# Altium footprint library Antenna_PCB_Library.PcbLib: 4 footprints
Each footprint in its own frame and in the unit in brackets; x right, y up, seen from the top. Pads: shape width x height; smd on the part's side, far side on the other; paste and mask are expansions set on the pad; w line width, h text height; cw(c..) or ccw(c..) is an arc to the next point about the centre after c.
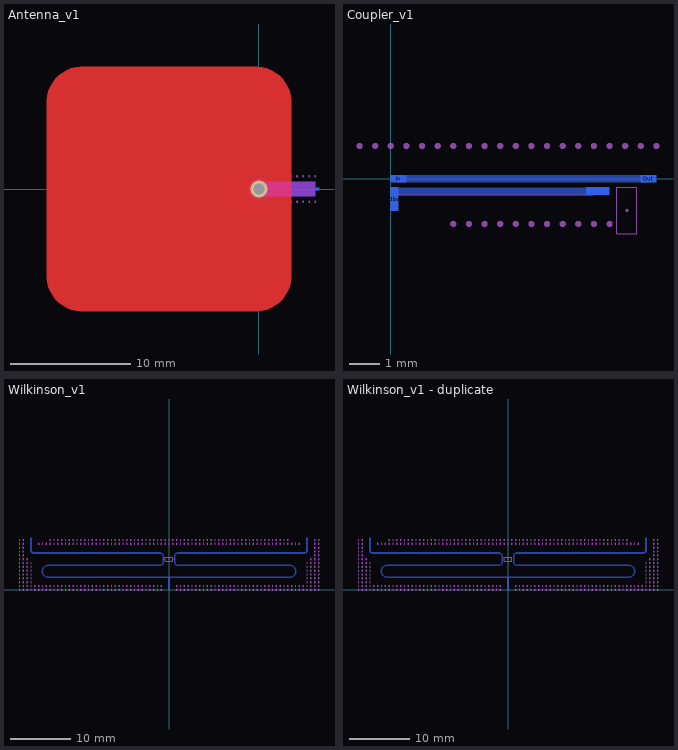
[diagram p0: the footprints below, top view; thin cyan lines are the x and y axes]

## Antenna_v1 [mil]
pads (2):
  round 1 on Mid2 paste-3: G(-295.28,0)
  rect 9.4x9.4 smd far side paste-5 mask+0: S(192.15,0)
via 0,0 diameter 55.12 hole 35.43
L1-Top:
  region: -696.79,-283.46 -696.79,283.46 -696.79,291.2 -694.77,306.54 -690.76,321.49 -684.84,335.79 -677.1,349.19 -667.68,361.46 -656.74,372.41 -644.46,381.83 -631.06,389.56 -616.77,395.49 -601.82,399.49 -586.48,401.51 -578.74,401.51 -11.81,401.51 -4.07,401.51 11.27,399.49 26.21,395.49 40.51,389.56 53.91,381.83 66.19,372.41 77.13,361.46 86.55,349.19 94.29,335.79 100.21,321.49 104.22,306.54 106.23,291.2 106.23,283.46 106.23,0.06 19.75,0.06 19.36,3.91 16.39,11.02 10.94,16.45 3.82,19.38 -3.88,19.36 -10.99,16.41 -16.43,10.96 -19.37,3.85 -19.75,0 -19.37,-3.85 -16.43,-10.96 -10.99,-16.41 -3.88,-19.36 3.82,-19.38 10.94,-16.45 16.39,-11.02 19.36,-3.91 19.75,-0.06 106.23,-0.06 106.23,-283.46 106.23,-291.2 104.22,-306.54 100.21,-321.49 94.29,-335.79 86.55,-349.19 77.13,-361.46 66.19,-372.41 53.91,-381.83 40.51,-389.56 26.21,-395.49 11.27,-399.49 -4.07,-401.51 -11.81,-401.51 -578.74,-401.51 -586.48,-401.51 -601.82,-399.49 -616.77,-395.49 -631.06,-389.56 -644.46,-381.83 -656.74,-372.41 -667.68,-361.46 -677.1,-349.19 -684.84,-335.79 -690.76,-321.49 -694.77,-306.54 -696.79,-291.2
L2-Mid-A:
  region: -718.5,-305.12 -718.5,305.12 -718.5,312.86 -716.48,328.21 -712.48,343.16 -706.55,357.47 -698.81,370.88 -689.38,383.16 -678.44,394.11 -666.15,403.53 -652.74,411.28 -638.44,417.2 -623.49,421.21 -608.13,423.23 -600.39,423.23 9.84,423.23 17.58,423.23 32.93,421.21 47.89,417.2 62.19,411.28 75.6,403.53 87.89,394.11 98.83,383.16 108.26,370.88 116,357.47 121.92,343.16 125.93,328.21 127.95,312.86 127.95,305.12 127.95,-305.12 127.95,-312.86 125.93,-328.21 121.92,-343.16 116,-357.47 108.26,-370.88 98.83,-383.16 87.89,-394.11 75.6,-403.53 62.19,-411.28 47.89,-417.2 32.93,-421.21 17.58,-423.23 9.84,-423.23 -600.39,-423.23 -608.13,-423.23 -623.49,-421.21 -638.44,-417.2 -652.74,-411.28 -666.15,-403.53 -678.44,-394.11 -689.38,-383.16 -698.81,-370.88 -706.55,-357.47 -712.48,-343.16 -716.48,-328.21 -718.5,-312.86
L3-Mid-B:
  region: -787.34,-492.06 -787.34,492.06 196.79,492.06 196.79,0.06 39.43,0.06 39.35,2.64 38.66,7.75 37.32,12.73 35.34,17.49 32.76,21.95 29.62,26.04 25.97,29.68 21.87,32.81 17.4,35.39 12.64,37.35 7.66,38.68 2.55,39.35 -2.61,39.35 -7.72,38.67 -12.7,37.33 -17.46,35.36 -21.93,32.78 -26.01,29.64 -29.66,25.99 -32.8,21.9 -35.37,17.43 -37.34,12.67 -38.68,7.69 -39.35,2.58 -39.43,0 -39.35,-2.58 -38.68,-7.69 -37.34,-12.67 -35.37,-17.43 -32.8,-21.9 -29.66,-25.99 -26.01,-29.64 -21.93,-32.78 -17.46,-35.36 -12.7,-37.33 -7.72,-38.67 -2.61,-39.35 2.55,-39.35 7.66,-38.68 12.64,-37.35 17.4,-35.39 21.87,-32.81 25.97,-29.68 29.62,-26.04 32.76,-21.95 35.34,-17.49 37.32,-12.73 38.66,-7.75 39.35,-2.64 39.43,-0.06 196.79,-0.06 196.79,-492.06
L4-Bottom:
  rectangle: 0,-4.7 187.45,4.7
  region: -27.56,0 -27.56,-2.71 -26.5,-8.04 -24.42,-13.05 -21.41,-17.57 -17.57,-21.41 -13.05,-24.42 -8.04,-26.5 -2.71,-27.56 0,-27.56 2.71,-27.56 8.04,-26.5 13.05,-24.42 17.57,-21.41 21.41,-17.57 24.42,-13.05 26.5,-8.04 27.56,-2.71 27.56,0 27.56,2.71 26.5,8.04 24.42,13.05 21.41,17.57 17.57,21.41 13.05,24.42 8.04,26.5 2.71,27.56 0,27.56 -2.71,27.56 -8.04,26.5 -13.05,24.42 -17.57,21.41 -21.41,17.57 -24.42,13.05 -26.5,8.04 -27.56,2.71
  lines w9.4: 0,0 192.15,0
L4-Bottom keep-out:
  circle w1: c0,0 r33
  rectangle: 0,-24 185,0
  rectangle: 0,0 185,24
Mechanical 1:
  circle w4: c185,-42 r2
  circle w4: c165,-42 r2
  circle w4: c145,-42 r2
  circle w4: c125,-42 r2
  circle w4: c105,-42 r2
  circle w4: c85,-42 r2
  circle w4: c65,-42 r2
  circle w4: c45,-42 r2
  circle w4: c25,-43.3 r2
  circle w4: c8.68,-49.24 r2
  circle w4: c-8.68,-49.24 r2
  circle w4: c-25,-43.3 r2
  circle w4: c-38.3,-32.14 r2
  circle w4: c-46.98,-17.1 r2
  circle w4: c-50,0 r2
  circle w4: c-46.98,17.1 r2
  circle w4: c-38.3,32.14 r2
  circle w4: c-25,43.3 r2
  circle w4: c-8.68,49.24 r2
  circle w4: c8.68,49.24 r2
  circle w4: c25,43.3 r2
  circle w4: c45,42 r2
  circle w4: c65,42 r2
  circle w4: c85,42 r2
  circle w4: c105,42 r2
  circle w4: c125,42 r2
  circle w4: c145,42 r2
  circle w4: c165,42 r2
  circle w4: c185,42 r2

## Coupler_v1 [mil]
pads (4):
  rect 30x9.4 smd far side paste-5 mask+0: 50_Ohm(264.4,-15.76)
  rect 20x9.4 smd far side paste-5 mask+0: In(10,0) Out(330,0)
  rect 9.4x30 smd far side paste-5 mask+0: Obs(4.7,-26.06)
L4-Bottom:
  rectangle: 9.4,-20.46 249.4,-11.06
  rectangle: 20,-4.7 320,4.7
  lines w9.4: 4.7,-26.06 4.7,-15.76 ; 10,0 330,0
L4-Bottom keep-out:
  rectangle: 9.4,-21.46 259.4,-20.46
  rectangle: 0,4.7 300,5.7
Mechanical 1:
  circle w4: c340,42 r2
  circle w4: c-40,42 r2
  circle w4: c-20,42 r2
  circle w2: c302.2,-40.59 r1
  circle w4: c20,42 r2
  circle w4: c0,42 r2
  circle w4: c40,42 r2
  circle w4: c60,42 r2
  circle w4: c80,42 r2
  circle w4: c100,42 r2
  circle w4: c120,42 r2
  circle w4: c140,42 r2
  circle w4: c160,42 r2
  circle w4: c180,42 r2
  circle w4: c200,42 r2
  circle w4: c220,42 r2
  circle w4: c240,42 r2
  circle w4: c260,42 r2
  circle w4: c280,42 r2
  circle w4: c300,42 r2
  circle w4: c320,42 r2
  circle w4: c80,-57.76 r2
  circle w4: c100,-57.76 r2
  circle w4: c120,-57.76 r2
  circle w4: c140,-57.76 r2
  circle w4: c160,-57.76 r2
  circle w4: c180,-57.76 r2
  circle w4: c200,-57.76 r2
  circle w4: c220,-57.76 r2
  circle w4: c240,-57.76 r2
  circle w4: c260,-57.76 r2
  circle w4: c280,-57.76 r2
  lines w1: 289.41,-70.12 289.41,-11.06 315,-11.06 315,-70.12 289.41,-70.12

## Wilkinson_v1 [mil]
pads (5):
  round 5 smd far side paste-5 mask+0: 1(900,337.4) 2(-900,337.4) C(0,0)
  round 5 smd far side paste-5 mask-5: Res_Pad1(34.58,199.6) Res_Pad2(-34.58,199.6)
L4-Bottom:
  region: 156 vertices and 0 holes, not listed, extent -904.7,0 904.7,337.4
Mechanical 1:
  drawing of 363 lines, arcs and shapes, not listed

## Wilkinson_v1 - duplicate [mil]
pads (3):
  round 5 smd far side paste-5 mask+0: 1(900,337.4) 2(-900,337.4) C(0,0)
L4-Bottom:
  region: 156 vertices and 0 holes, not listed, extent -904.7,0 904.7,337.4
Mechanical 1:
  drawing of 363 lines, arcs and shapes, not listed